# EAGLE library part REC5-XX (library 000001)
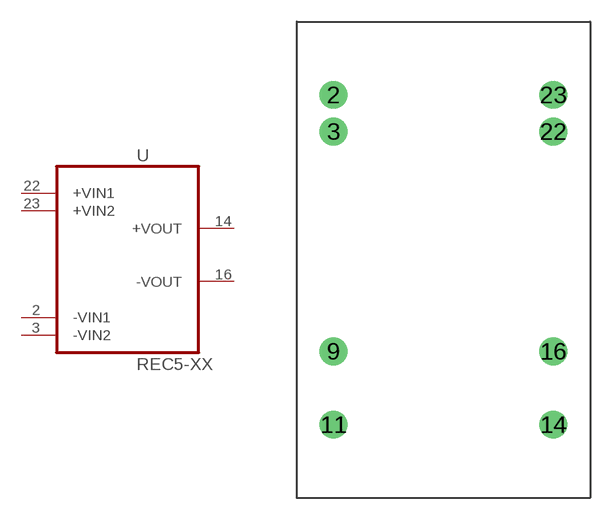
[diagram p107: symbol with the pads of REC5-XX12SRWH; footprint REC5-XX12SRWH]

Designator prefix -

## REC5-XX  [REC5-XX12SRWH]
2  -VIN1  pwr
3  -VIN2  pwr
14  +VOUT  pwr
16  -VOUT  pwr
22  +VIN1  pwr
23  +VIN2  pwr

## Footprint REC5-XX12SRWH (pad centres in mm)
drill 0.5 pad 1.93 round: 2 -7.62,12.7; 3 -7.62,10.16; 9 -7.62,-5.08; 11 -7.62,-10.16; 14 7.62,-10.16; 16 7.62,-5.08; 22 7.62,10.16; 23 7.62,12.7